# Altium schematic symbol library LDO_3PIN_1O_2G_3I.SchLib: 1 symbol
Pins are listed as number, name and electrical type; pins without a type are passive.

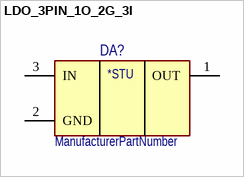
[diagram p0: symbol LDO_3PIN_1O_2G_3I]

## LDO_3PIN_1O_2G_3I
designator DA?
ManufacturerPartNumber: ManufacturerPartNumber
pins: 1 OUT (power), 2 GND (power), 3 IN (power)
text: *STU